# Altium schematic symbol library CONNECTORS.SchLib: 15 symbols
Pins are listed as number, name and electrical type; pins without a type are passive.

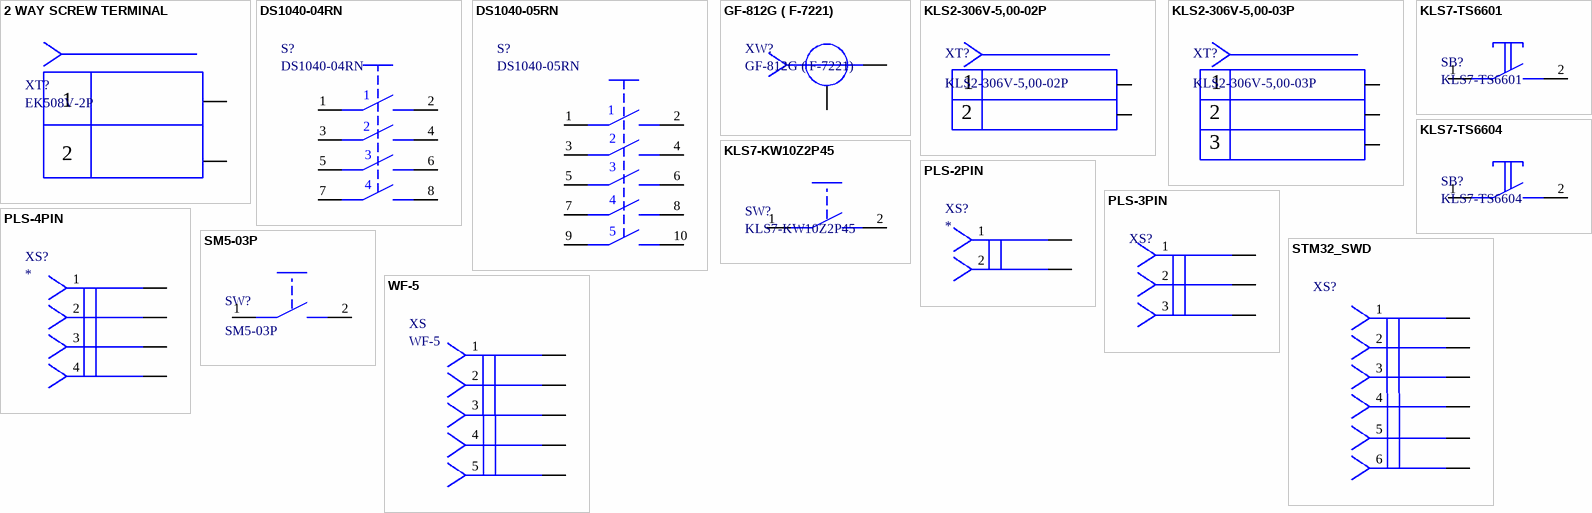
[diagram p0: symbols 2 WAY SCREW TERMINAL to WF-5]

## 2 WAY SCREW TERMINAL
designator XT?, comment EK508V-2P
Name: EK508V-2P
footprint EK508V-02P
pins: 1, 2

## DS1040-04RN
designator S?
Name: DS1040-04RN
footprint DS1040-04RN
pins: 1, 2, 3, 4, 5, 6, 7, 8

## DS1040-05RN
designator S?
Name: DS1040-05RN
footprint DS1040-05RN
pins: 1, 2, 3, 4, 5, 6, 7, 8, 9, 10

## GF-812G ( F-7221)
designator XW?
Name: GF-812G ( F-7221)
footprint CH-7221
pins: 1, 2

## KLS2-306V-5,00-02P
designator XT?
Name: KLS2-306V-5,00-02P
footprint KLS2-306V-5,00-02P
pins: 1, 2

## KLS2-306V-5,00-03P
designator XT?
Name: KLS2-306V-5,00-03P
footprint KLS2-306V-5,00-03P
pins: 1, 2, 3

## KLS7-KW10Z2P45
designator SW?
Name: KLS7-KW10Z2P45
footprint KLS7-KW10
pins: 1, 2

## KLS7-TS6601
designator SB?
Name: KLS7-TS6601
footprint KLS7-TS6601 (button)
pins: 1, 2

## KLS7-TS6604
designator SB?
Name: KLS7-TS6604
footprint KLS7-TS6604
pins: 1, 2

## PLS-2PIN
designator XS?
footprint PLS-2PIN - 2,54mm
pins: 1, 2

## PLS-3PIN
designator XS?  (value not drawn)
footprint PLS-3PIN - 2,54mm
pins: 1, 2, 3

## PLS-4PIN
designator XS?
footprint PLS-4PIN - 2,54mm
pins: 1, 2, 3, 4

## SM5-03P
designator SW?
Name: SM5-03P
footprint SM5-03P
pins: 1, 2

## STM32_SWD
designator XS?, comment PLS  (value not drawn)
footprint SWD_CON
pins: 1, 2, 3, 4, 5, 6

## WF-5
designator XS
Name: WF-5
footprint WF-5
pins: 1, 2, 3, 4, 5